# Altium schematic symbol library Внешний полётник.SchLib: 1 symbol
Pins are listed as number, name and electrical type; pins without a type are passive.

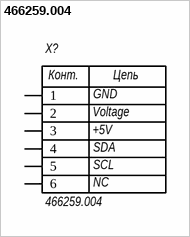
[diagram p0: symbol 466259.004]

## 466259.004
designator X?
footprint 466259.004 (Полётный контроллер 466259.004)
pins: 1, 2, 3, 4, 5, 6
text: Конт.; Цепь; GND; Voltage; +5V; SDA; SCL; NC